# Altium schematic symbol library GOST-Symbol.SchLib: 139 symbols
Pins are listed as number, name and electrical type; pins without a type are passive.

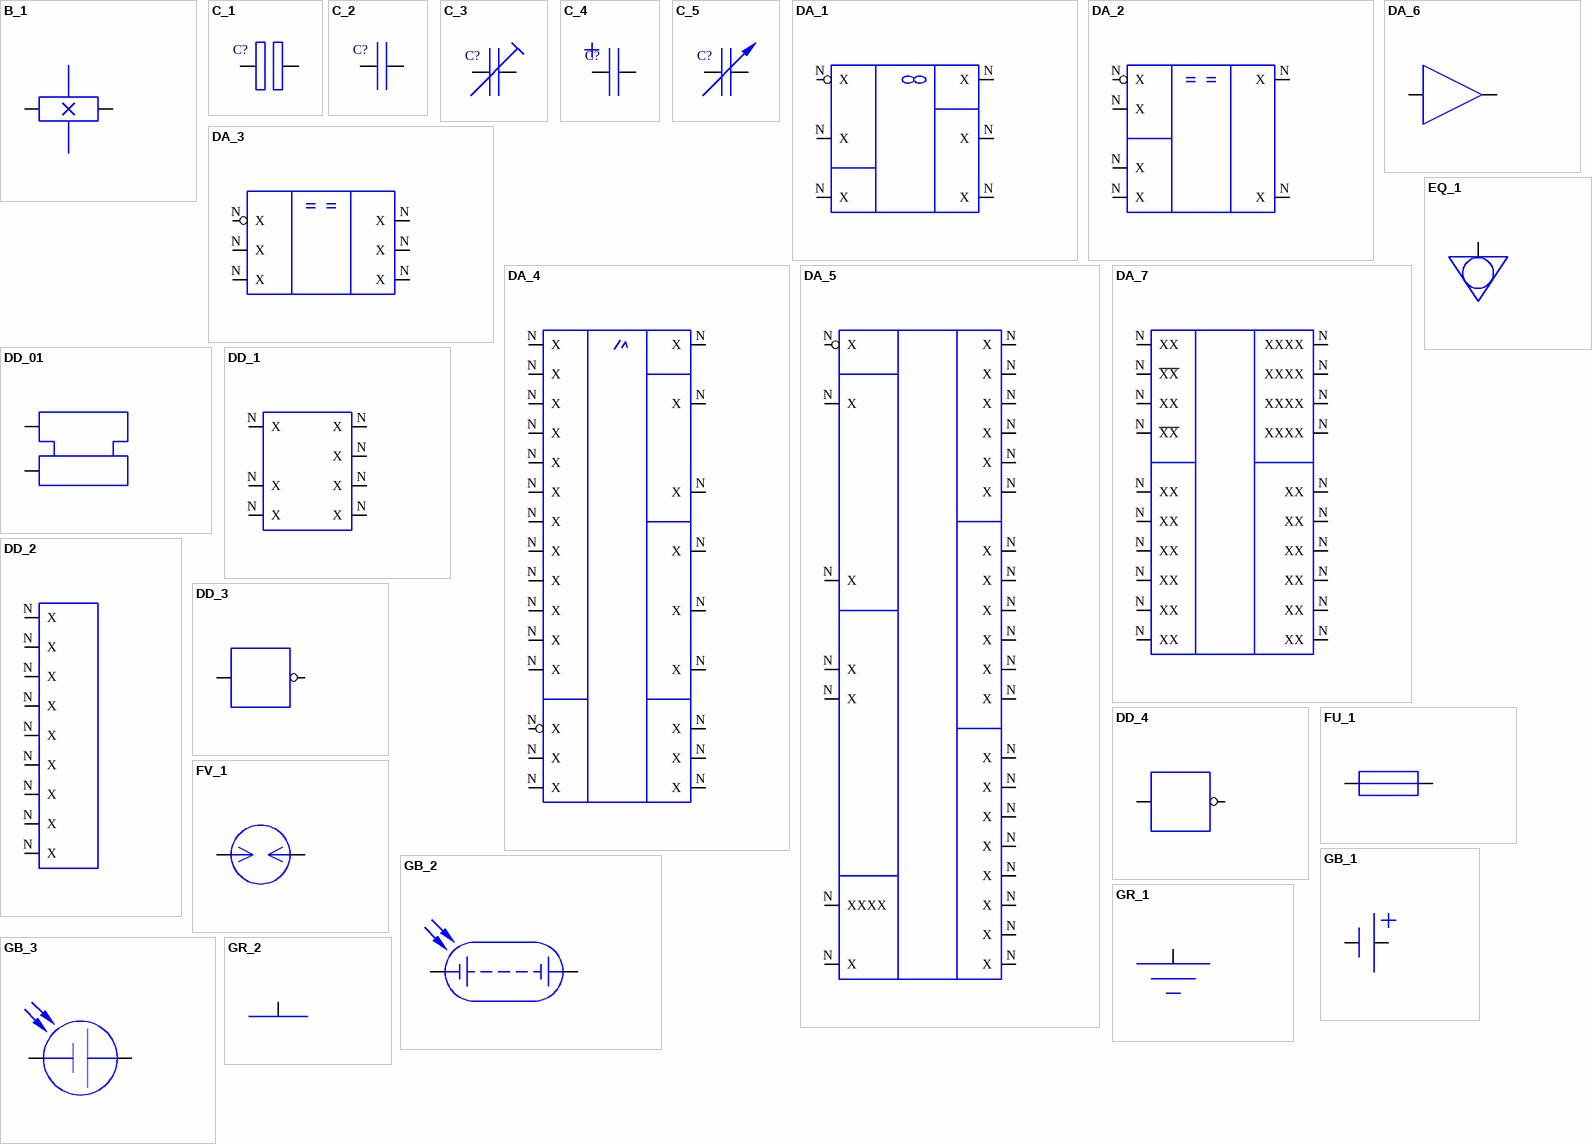
[diagram p0: symbols B_1 to GR_2]

## B_1
designator B?
pins: 1, 2

## C_1
designator C?
pins: 1, 2

## C_2
designator C?
pins: 1, 2

## C_3
designator C?
pins: 1, 2

## C_4
designator C?
pins: 1, 2

## C_5
designator C?
pins: 1, 2

## DA_1
designator DA?
pins: N X, N X, N X, N X, N X, N X

## DA_2
designator DA?
pins: N X, N X, N X, N X, N X, N X

## DA_3
designator DA?
pins: N X, N X, N X, N X, N X, N X

## DA_4
designator DA?
pins: N X, N X, N X, N X, N X, N X, N X, N X, N X, N X, N X, N X, N X, N X, N X, N X, N X, N X, N X, N X, N X, N X, N X, N X

## DA_5
designator D?
pins: N X, N X, N X, N X, N X, N X, N X, N X, N X, N X, N X, N X, N X, N X, N X, N X, N X, N X, N X, N X, N X, N X, N X, N X, N X, N XXXX, N X

## DA_6
designator DA?
pins: 1, 2

## DA_7
designator DA?
pins: N XX, N ~{XX}, N XXXX, N XXXX, N XX, N XX, N XXXX, N XXXX, N XX, N XX, N XX, N XX, N XX, N XX, N ~{XX}, N XX, N XX, N XX, N XX, N XX

## DD_01
designator DD?
pins: 1, 2

## DD_1
designator DD?
pins: N X, N X, N X, N X, N X, N X, N X

## DD_2
designator DD?
pins: N X, N X, N X, N X, N X, N X, N X, N X, N X

## DD_3
designator DD?
pins: 1, 2

## DD_4
designator DD?
pins: 1, 2

## EQ_1
designator ?
pins: 1

## FU_1
designator FU?
pins: 1, 2

## FV_1
designator FV?
pins: 1, 2

## GB_1
designator GB?
pins: 1, 2

## GB_2
designator GB?
pins: 1, 2

## GB_3
designator GB?
pins: 1, 2

## GR_1
designator ?
pins: 1

## GR_2
designator ?
pins: 1

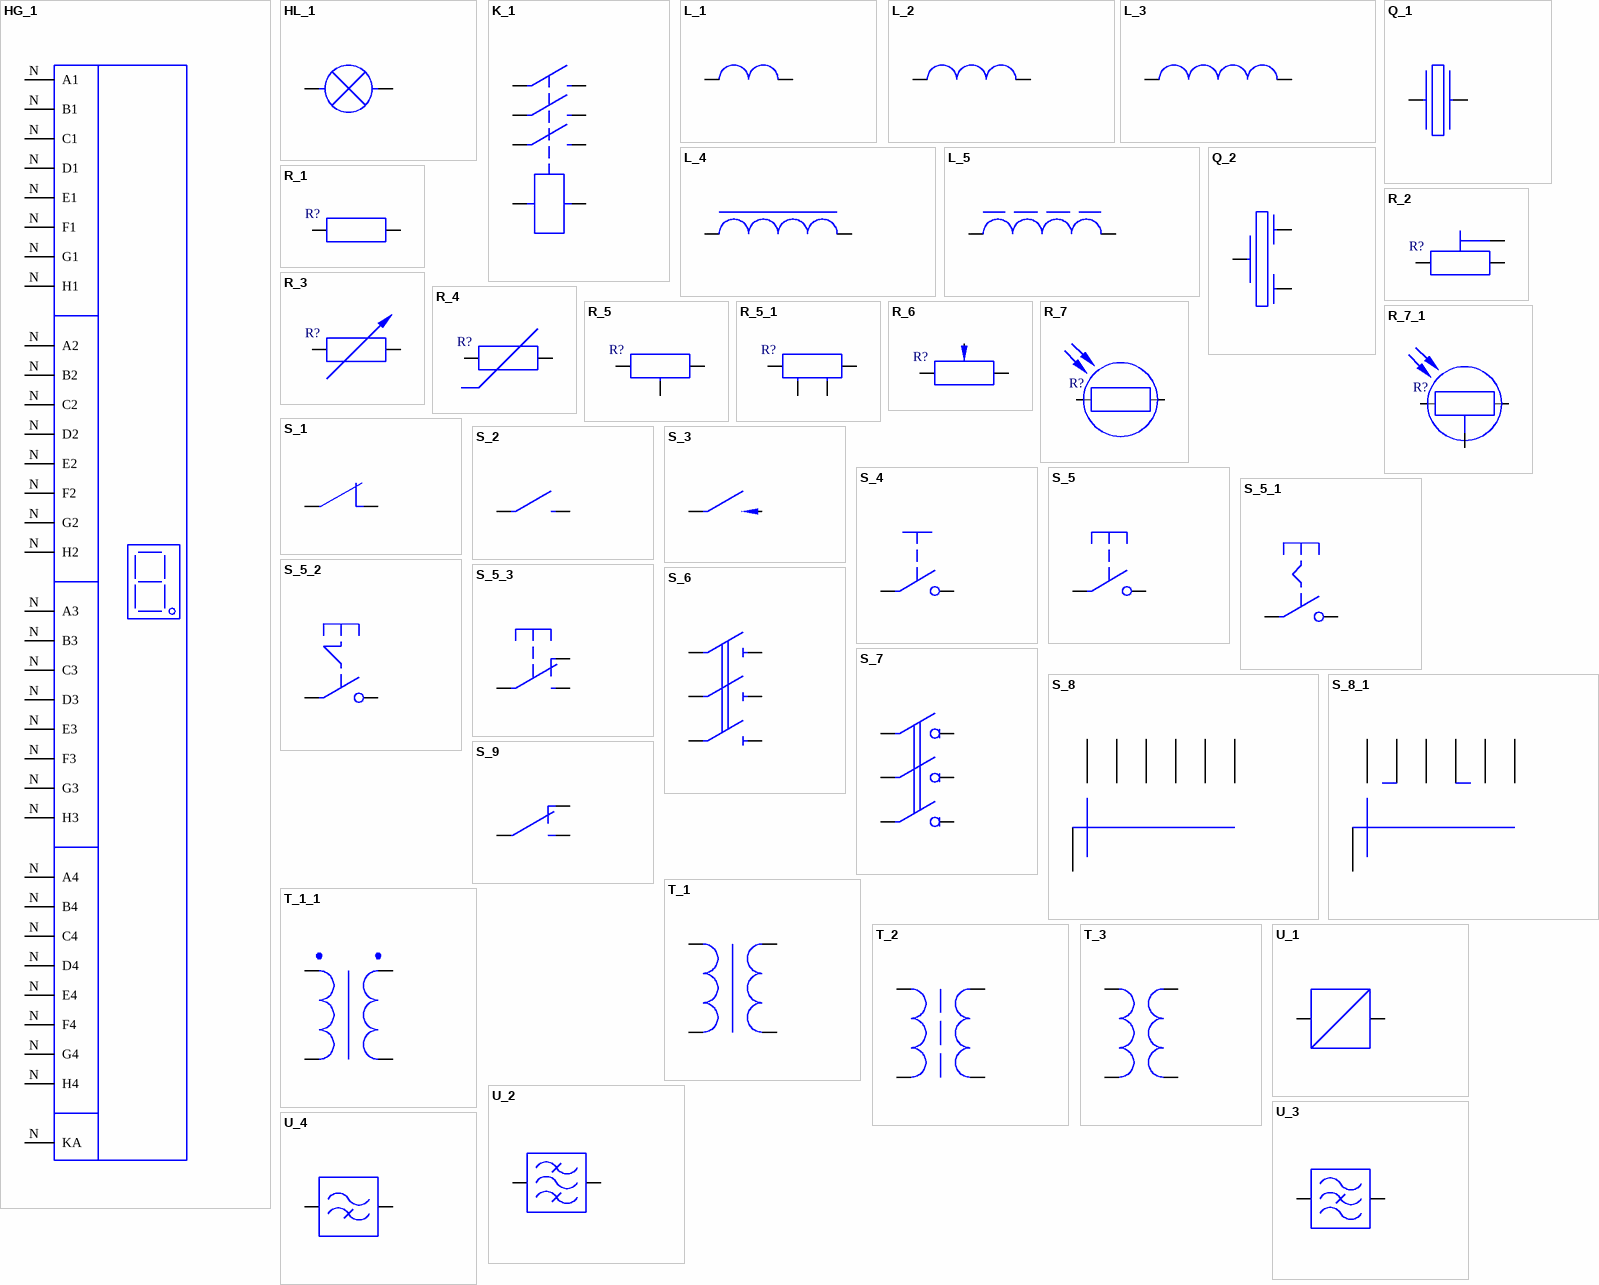
[diagram p1: symbols HG_1 to U_4]

## HG_1
designator HG?
pins: N A1, N B1, N C1, N D1, N E1, N F1, N G1, N H1, N A2, N B2, N C2, N D2, N E2, N F2, N G2, N H2, N A3, N B3, N C3, N D3, N E3, N F3, N G3, N H3, N A4, N B4, N C4, N D4, N E4, N F4, N G4, N H4, N KA

## HL_1
designator HL?
pins: 1, 2

## K_1
designator K?
pins: 1, 2, 3, 4, 5, 6, 7, 8

## L_1
designator L?
pins: 1, 2

## L_2
designator L?
pins: 1, 2

## L_3
designator L?
pins: 1, 2

## L_4
designator L?
pins: 1, 2

## L_5
designator L?
pins: 1, 2

## Q_1
designator Q?
pins: 1, 2

## Q_2
designator Q?
pins: 1, 2, 3

## R_1
designator R?
pins: 1, 2

## R_2
designator R?
pins: 1, 2, 3

## R_3
designator R?
pins: 1, 2

## R_4
designator R?
pins: 1, 2

## R_5
designator R?
pins: 1, 2, 3

## R_5_1
designator R?
pins: 1, 2, 3, 4

## R_6
designator R?
pins: 1, 2, 3

## R_7
designator R?
pins: 1, 2

## R_7_1
designator R?
pins: 1, 2, 3

## S_1
designator S?
pins: 1, 2

## S_2
designator S?
pins: 1, 2

## S_3
designator S?
pins: 1, 2

## S_4
designator S?
pins: 1, 2

## S_5
designator S?
pins: 1, 2

## S_5_1
designator S?
pins: 1, 2

## S_5_2
designator S?
pins: 1, 2

## S_5_3
designator S?
pins: 1, 2, 3

## S_6
designator S?
pins: 1, 2, 3, 4, 5, 6

## S_7
designator S?
pins: 1, 2, 3, 4, 5, 6

## S_8
designator S?
pins: 1, 2, 3, 4, 5, 6, 7

## S_8_1
designator S?
pins: 1, 2, 3, 4, 5, 6, 7

## S_9
designator S?
pins: 1, 2, 3

## T_1
designator T?
pins: 1, 2, 3, 4

## T_1_1
designator T?
pins: 1, 2, 3, 4

## T_2
designator T?
pins: 1, 2, 3, 4

## T_3
designator T?
pins: 1, 2, 3, 4

## U_1
designator U?
pins: 1, 2

## U_2
designator U?
pins: 1, 2

## U_3
designator U?
pins: 1, 2

## U_4
designator U?
pins: 1, 2

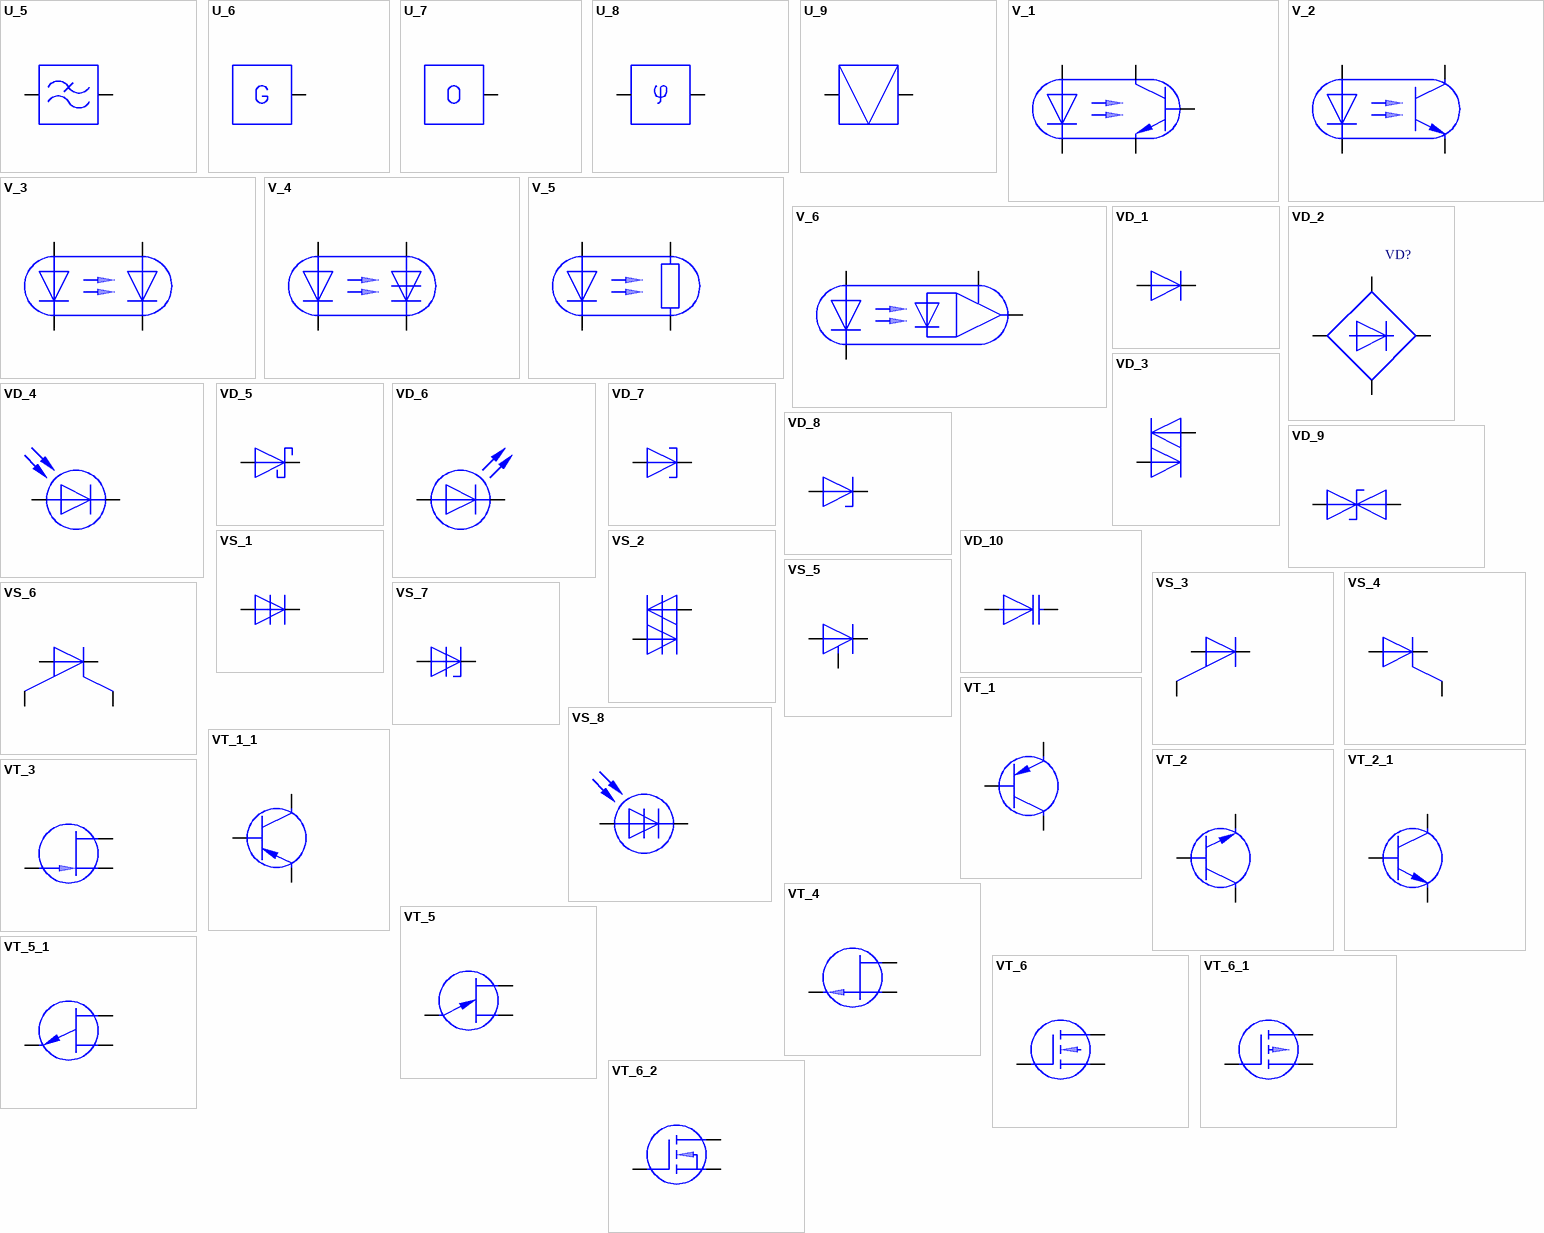
[diagram p2: symbols U_5 to VT_6_2]

## U_5
designator U?
pins: 1, 2

## U_6
designator U?
pins: 1

## U_7
designator U?
pins: 1

## U_8
designator WT?
pins: 1, 2

## U_9
designator U?
pins: 1, 2

## V_1
designator V?
pins: 1, 2, 3, 4, 5

## V_2
designator V?
pins: 1, 2, 3, 4

## V_3
designator V?
pins: 1, 2, 3, 4

## V_4
designator V?
pins: 1, 2, 3, 4

## V_5
designator V?
pins: 1, 2, 3, 4

## V_6
designator V?
pins: 1, 2, 3, 4

## VD_1
designator VD?
pins: 1, 2

## VD_2
designator VD?
pins: 1, 2, 3, 4

## VD_3
designator VD?
pins: 1, 2

## VD_4
designator VD?
pins: 1, 2

## VD_5
designator VD?
pins: 1, 2

## VD_6
designator VD?
pins: 1, 2

## VD_7
designator VD?
pins: 1, 2

## VD_8
designator VD?
pins: 1, 2

## VD_9
designator VD?
pins: 1, 2

## VD_10
designator VD?
pins: 1, 2

## VS_1
designator VS?
pins: 1, 2

## VS_2
designator VS?
pins: 1, 2

## VS_3
designator VS?
pins: 1, 2, 3

## VS_4
designator VS?
pins: 1, 2, 3

## VS_5
designator VS?
pins: 1, 2, 3

## VS_6
designator VS?
pins: 1, 2, 3, 4

## VS_7
designator VS?
pins: 1, 2

## VS_8
designator VD?
pins: 1, 2

## VT_1
designator VT?
pins: 1, 2, 3

## VT_1_1
designator VT?
pins: 1, 2, 3

## VT_2
designator VT?
pins: 1, 2, 3

## VT_2_1
designator VT?
pins: 1, 2, 3

## VT_3
designator VT?
pins: 1, 2, 3

## VT_4
designator VT?
pins: 1, 2, 3

## VT_5
designator VT?
pins: 1, 2, 3

## VT_5_1
designator VT?
pins: 1, 2, 3

## VT_6
designator VT?
pins: 1, 2, 3

## VT_6_1
designator VT?
pins: 1, 2, 3

## VT_6_2
designator VT?
pins: 1, 2, 3

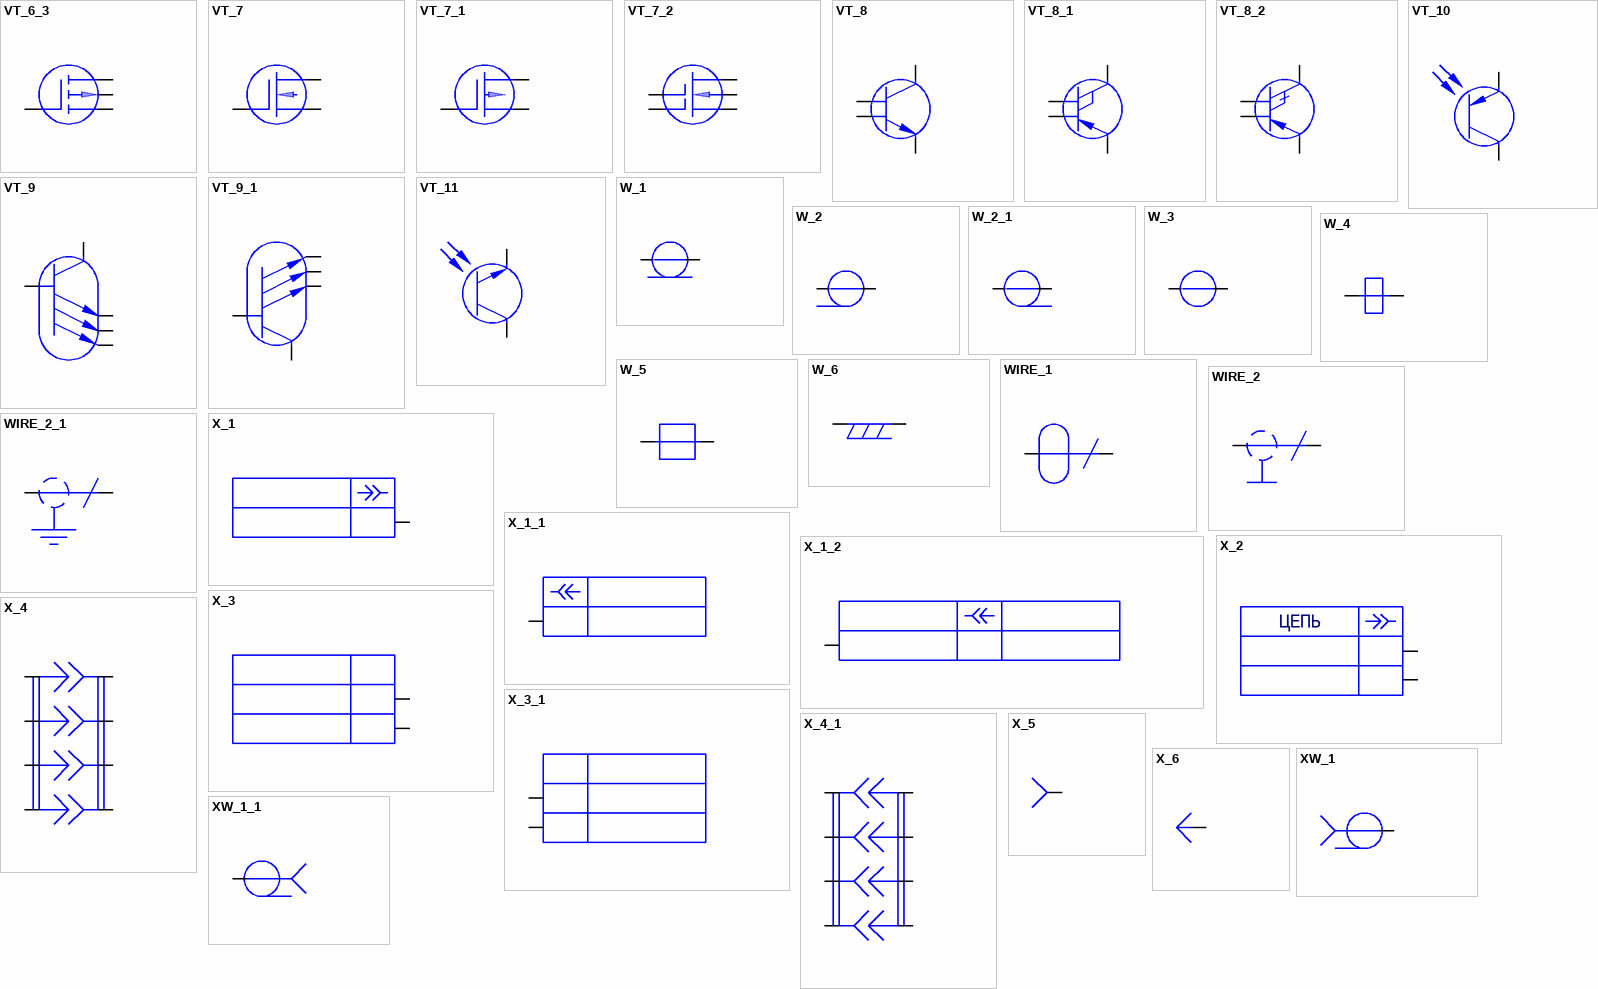
[diagram p3: symbols VT_6_3 to XW_1_1]

## VT_6_3
designator VT?
pins: 1, 2, 3, 4

## VT_7
designator VT?
pins: 1, 2, 3

## VT_7_1
designator VT?
pins: 1, 2, 3

## VT_7_2
designator VT?
pins: 1, 2, 3, 4, 5

## VT_8
designator VT?
pins: 1, 2, 3, 4

## VT_8_1
designator VT?
pins: 1, 2, 3, 4

## VT_8_2
designator VT?
pins: 1, 2, 3, 4

## VT_9
designator VT?
pins: 1, 2, 3, 4, 5

## VT_9_1
designator VT?
pins: 1, 2, 3, 4, 5

## VT_10
designator VT?
pins: 1, 2

## VT_11
designator VT?
pins: 1, 2

## W_1
designator W?
pins: 1, 2

## W_2
designator W?
pins: 1, 2

## W_2_1
designator W?
pins: 1, 2

## W_3
designator W?
pins: 1, 2

## W_4
designator W?
pins: 1, 2

## W_5
designator W?
pins: 1, 2

## W_6
designator W?
pins: 1, 2

## WIRE_1
designator ?
pins: 1, 2

## WIRE_2
designator ?
pins: 1, 2

## WIRE_2_1
designator ?
pins: 1, 2

## X_1
designator X?
pins: 1

## X_1_1
designator X?
pins: 1

## X_1_2
designator X?
pins: 1

## X_2
designator X?
pins: 1, 2
text: ЦЕПЬ

## X_3
designator X?
pins: 1, 2

## X_3_1
designator X?
pins: 1, 2

## X_4
designator X?
pins: 1, 2, 3, 4, 5, 6, 7, 8

## X_4_1
designator X?
pins: 1, 2, 3, 4, 5, 6, 7, 8

## X_5
designator X?
pins: 1

## X_6
designator X?
pins: 1

## XW_1
designator X?
pins: 1

## XW_1_1
designator X?
pins: 1